# Altium footprint library PCB - CONNECTOR - SAMTEC IPL1-113-02-L-D-K.PCBLIB: 1 footprints
Each footprint in its own frame and in the unit in brackets; x right, y up, seen from the top. Pads: shape width x height; smd on the part's side, far side on the other; paste and mask are expansions set on the pad; w line width, h text height; cw(c..) or ccw(c..) is an arc to the next point about the centre after c.
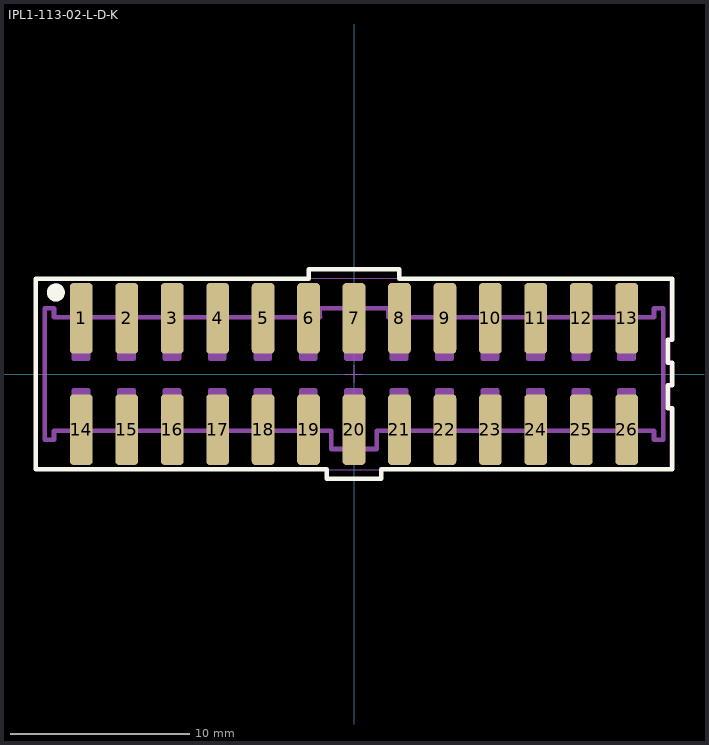
[diagram p0: the footprint, top view; thin cyan lines are the x and y axes]

## IPL1-113-02-L-D-K [mil]
height 344.88
pads (26):
  rrect30% 50x155 smd mask+2: 1(-600,122.5) 2(-500,122.5) 3(-400,122.5) 4(-300,122.5) 5(-200,122.5) 6(-100,122.5) 7(0,122.5) 8(100,122.5) 9(200,122.5) 10(300,122.5) 11(400,122.5) 12(500,122.5) 13(600,122.5) 14(-600,-122.5) 15(-500,-122.5) 16(-400,-122.5) 17(-300,-122.5) 18(-200,-122.5) 19(-100,-122.5) 20(0,-122.5) 21(100,-122.5) 22(200,-122.5) 23(300,-122.5) 24(400,-122.5) 25(500,-122.5) 26(600,-122.5)
Top Overlay:
  circle w19.68: c-655.91,179.13 r9.84
  lines w10: -700,-210 -700,210 -100,210 -100,230 100,230 100,210 700,210 700,75 690,75 690,25 700,25 700,-25 690,-25 690,-75 700,-75 700,-210 60,-210 60,-230 -60,-230 -60,-210 -700,-210
Top Assembly:
  drawing of 152 lines, arcs and shapes, not listed
  text "14" at -659.84,-110.24 h27.56
  text "1" at -646.06,78.74 h27.56
  text "26" at 614.57,-110.24 h27.56
  text "13" at 620.47,78.74 h27.56
Top Courtyard:
  lines w1.97: -19.68,0 19.69,0 ; 0,-19.69 0,19.68 ; -695.28,-210.63 -695.28,210.63 695.28,210.63 695.28,-210.63 -695.28,-210.63
Top Designator:
  text ".Designator" at 480,230 h39.37
Top Value (Mech13):
  text ".Comment" at 490,270 h39.37
3D body "IPL1-113-02-L-D-K.stp": height 345, standoff 0, extent -679.99,-188.49 680.01,188.51